# Altium footprint library DIP-6_DIP762W50P254L735H400Q6.PcbLib: 1 footprints
Each footprint in its own frame and in the unit in brackets; x right, y up, seen from the top. Pads: shape width x height; smd on the part's side, far side on the other; paste and mask are expansions set on the pad; w line width, h text height; cw(c..) or ccw(c..) is an arc to the next point about the centre after c.
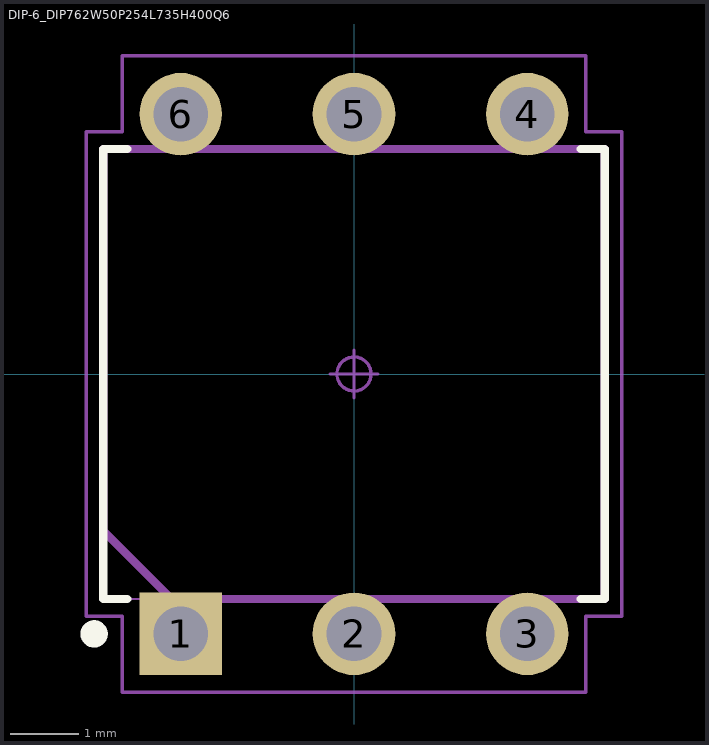
[diagram p0: the footprint, top view; thin cyan lines are the x and y axes]

## DIP-6_DIP762W50P254L735H400Q6 [mm] "DIP, 7.62 mm lead span, 2.54 mm pitch; 6 pin, 7.35 mm L X 6.60 mm W X 4.00 mm H body"
height 4
pads (6):
  rect 1.21x1.21 / inner round 1.21 / far side rect 1.21x1.21 hole 0.8 paste-2539.97: 1(-2.54,-3.81)
  round 1.21 hole 0.8 paste-2539.97: 2(0,-3.81) 3(2.54,-3.81) 4(2.54,3.81) 5(0,3.81) 6(-2.54,3.81)
Top Overlay:
  circle w0.2: c-3.81,-3.81 r0.1
  lines w0.12: -3.325,-3.3 -3.675,-3.3 -3.675,3.3 -3.325,3.3 ; 3.325,-3.3 3.675,-3.3 3.675,3.3 3.325,3.3
Mechanical 11:
  lines w0.12: -3.675,-2.3 -3.675,3.3 3.675,3.3 3.675,-3.3 -2.675,-3.3 -3.675,-2.3
Mechanical 12:
  lines w0.025: -3.675,-3.3 3.675,-3.3 3.675,3.3 -3.675,3.3 -3.675,-3.3 ; -2.84,-3.94 -2.84,-3.68 -2.24,-3.68 -2.24,-3.94 -2.84,-3.94 ; -2.84,3.68 -2.84,3.94 -2.24,3.94 -2.24,3.68 -2.84,3.68 ; -0.3,-3.94 -0.3,-3.68 0.3,-3.68 0.3,-3.94 -0.3,-3.94 ; -0.3,3.68 -0.3,3.94 0.3,3.94 0.3,3.68 -0.3,3.68 ; 2.24,-3.94 2.24,-3.68 2.84,-3.68 2.84,-3.94 2.24,-3.94 ; 2.24,3.68 2.24,3.94 2.84,3.94 2.84,3.68 2.24,3.68
Mechanical 15:
  circle w0.05: c0,0 r0.25
  lines w0.05: -0.35,0 0.35,0 ; 0,-0.35 0,0.35 ; -3.925,-3.55 -3.395,-3.55 -3.395,-4.665 3.395,-4.665 3.395,-3.55 3.925,-3.55 3.925,3.55 3.395,3.55 3.395,4.665 -3.395,4.665 -3.395,3.55 -3.925,3.55 -3.925,-3.55
Mechanical 16:
  text ".Designator" at 0,0 h1.2
3D body "DIP-6_DIP762W50P254L735H400Q6.STEP": height 4, standoff -2, extent -3.675,-3.94 3.675,3.94